# Altium schematic symbol library diods.SchLib: 37 symbols
Pins are listed as number, name and electrical type; pins without a type are passive.

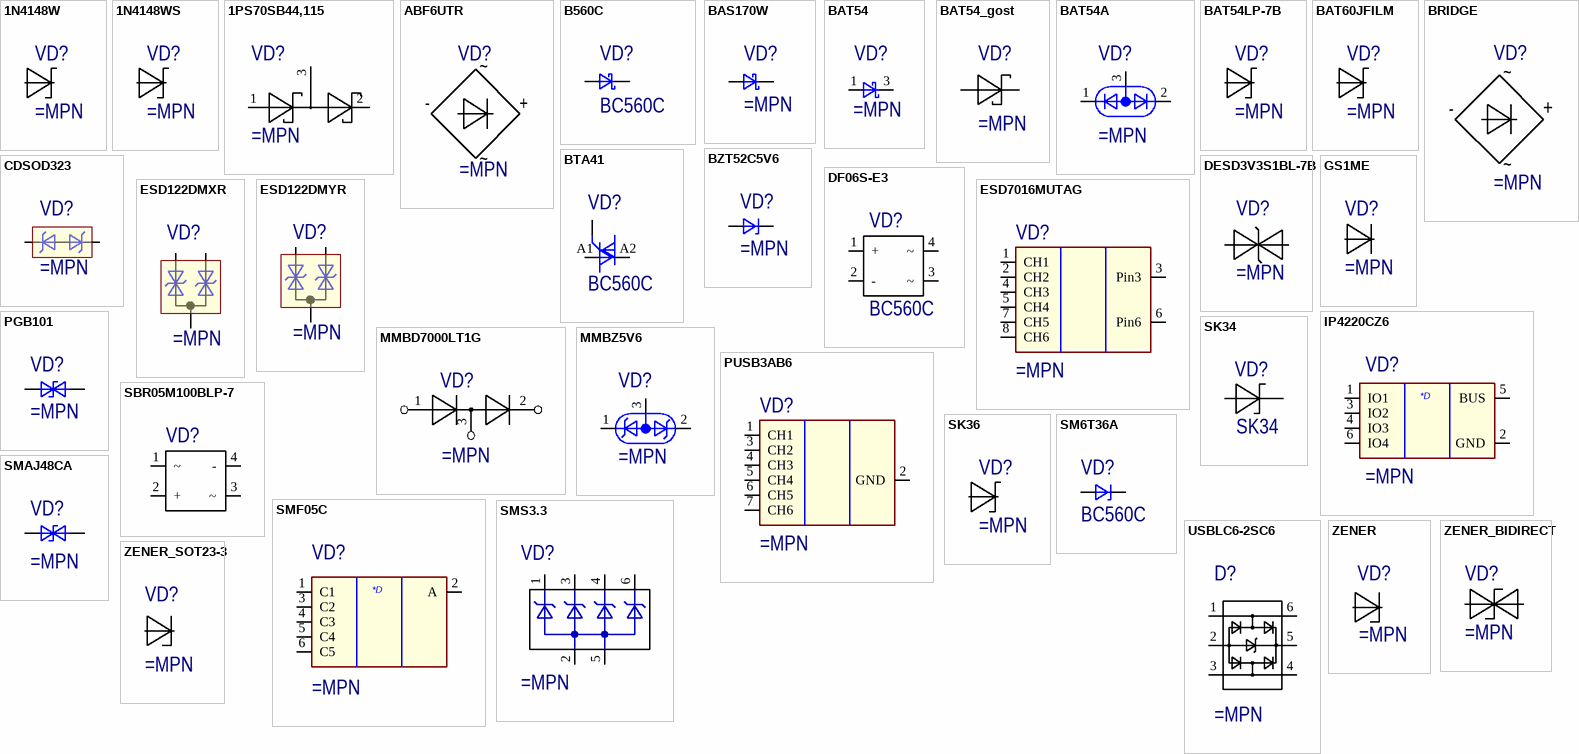
[diagram p0: symbols 1N4148W to ZENER_SOT23-3]

## 1N4148W
designator VD?
DIODE GEN PURP 100V 300MA SOD123
pins: 1 "CRS08", 2 "CRS08"

## 1N4148WS
designator VD?
DIODE GEN PURP 100V 250MA SOD323
pins: 1 "CRS08", 2 "CRS08"

## 1PS70SB44,115
designator VD?
pins: 1 ANODE, 1 a1,k2, 2 CATHODE, 3 a1,k4, 3 C/A

## ABF6UTR
designator VD?
BRIDGE RECTIFIER
pins: 1 "CRS08", 2 "CRS08", 3 "CRS08", 4 "CRS08"
text: ~; -; +

## B560C
designator VD?, comment BC560C
pins: 1, 2

## BAS170W
designator VD?
pins: 1, 2

## BAT54
designator VD?
pins: 1 a1,k2, 3 a1,k4

## BAT54_gost
designator VD?
pins: 1 a1,k2, 3 a1,k4

## BAT54A
designator VD?
pins: 1 a1,k2, 2 a1,k3, 3 a1,k4

## BAT54LP-7B
designator VD?
DIODE SCHOTTKY 30V 200MA 2DFN
pins: 1 Anode, 2 CATHODE

## BAT60JFILM
designator VD?
Diode Schottky 10V 3A
pins: 1 Anode, 2 Cathode

## BRIDGE
designator VD?
pins: + "CRS08", - "CRS08", L "CRS08", N "CRS08"
text: ~

## BTA41
designator VD?, comment BC560C
pins: A1, A2, G

## BZT52C5V6
designator VD?
pins: 1, 2

## CDSOD323
designator VD?
pins: 1, 2

## DESD3V3S1BL-7B
designator VD?
pins: 1, 2

## DF06S-E3
designator VD?, comment BC560C
pins: 1 +, 2 -, 3 ~, 4 ~

## ESD122DMXR
designator VD?
pins: 1, 2, 3

## ESD122DMYR
designator VD?
pins: 1, 2, 3

## ESD7016MUTAG
designator VD?
pins: 1 CH1, 2 CH2, 3 Pin3, 4 CH3, 5 CH4, 6 Pin6, 7 CH5, 8 CH6
1 alternate drawing of the same symbol

## GS1ME
designator VD?
1.0 Amp Silicon Rectifier 50 to 1000 Volts
pins: 1 "CRS08", 2 "CRS08"

## IP4220CZ6
designator VD?
pins: 1 IO1, 2 GND, 3 IO2, 4 IO3, 5 BUS, 6 IO4
1 alternate drawing of the same symbol
text: *D

## MMBD7000LT1G
designator VD?
DIODE ARRAY GP 100V 200MA SOT23
pins: 1 "CRS08", 1 "CRS08", 1 ANODE, 2 "CRS08", 2 "CRS08", 2 CATHODE, 3 CATHODE/ANODE

## MMBZ5V6
designator VD?
pins: 1 a1,k2, 2 a1,k3, 3 a1,k4

## PGB101
designator VD?
pins: 1, 2

## PUSB3AB6
designator VD?
pins: 1 CH1, 2 GND, 3 CH2, 4 CH3, 5 CH4, 6 CH5, 7 CH6
1 alternate drawing of the same symbol

## SBR05M100BLP-7
designator VD?
pins: 1 ~, 2 +, 3 ~, 4 -

## SK34
designator VD?
Диод Шоттки 3А 40В [SMC / DO-214AB]
pins: 1 "CRS08", 2 "CRS08"

## SK36
designator VD?
DIODE SCHOTTKY 60V 3A DO214AB
pins: 1 Anode, 2 CATHODE

## SM6T36A
designator VD?, comment BC560C
pins: 1, 2

## SMAJ48CA
designator VD?
pins: 1, 2

## SMF05C
designator VD?
pins: 1 C1, 2 A, 3 C2, 4 C3, 5 C4, 6 C5
1 alternate drawing of the same symbol
text: *D

## SMS3.3
designator VD?
pins: 1, 2, 3, 4, 5, 6

## USBLC6-2SC6
designator D?
Very low capacitance ESD protection
pins: 1 IO1 (power) "5 V Power Supply Input", 2 GND (power) "5 V Power Supply Input", 3 IO2 (power) "5 V Power Supply Input", 4 IO2 (power) "5 V Power Supply Input", 5 Vbus (power) "5 V Power Supply Input", 6 IO1 (power) "5 V Power Supply Input"

## ZENER
designator VD?
pins: 1 Cathode "CRS08", 2 Anode "CRS08"

## ZENER_BIDIRECT
designator VD?
pins: 1 "CRS08", 2 "CRS08"

## ZENER_SOT23-3
designator VD?
pins: 1 Anode "CRS08", 3 Cathode "CRS08"